# Altium footprint library PinSocKeyPointOthers.PcbLib: 16 footprints
Each footprint in its own frame and in the unit in brackets; x right, y up, seen from the top. Pads: shape width x height; smd on the part's side, far side on the other; paste and mask are expansions set on the pad; w line width, h text height; cw(c..) or ccw(c..) is an arc to the next point about the centre after c.
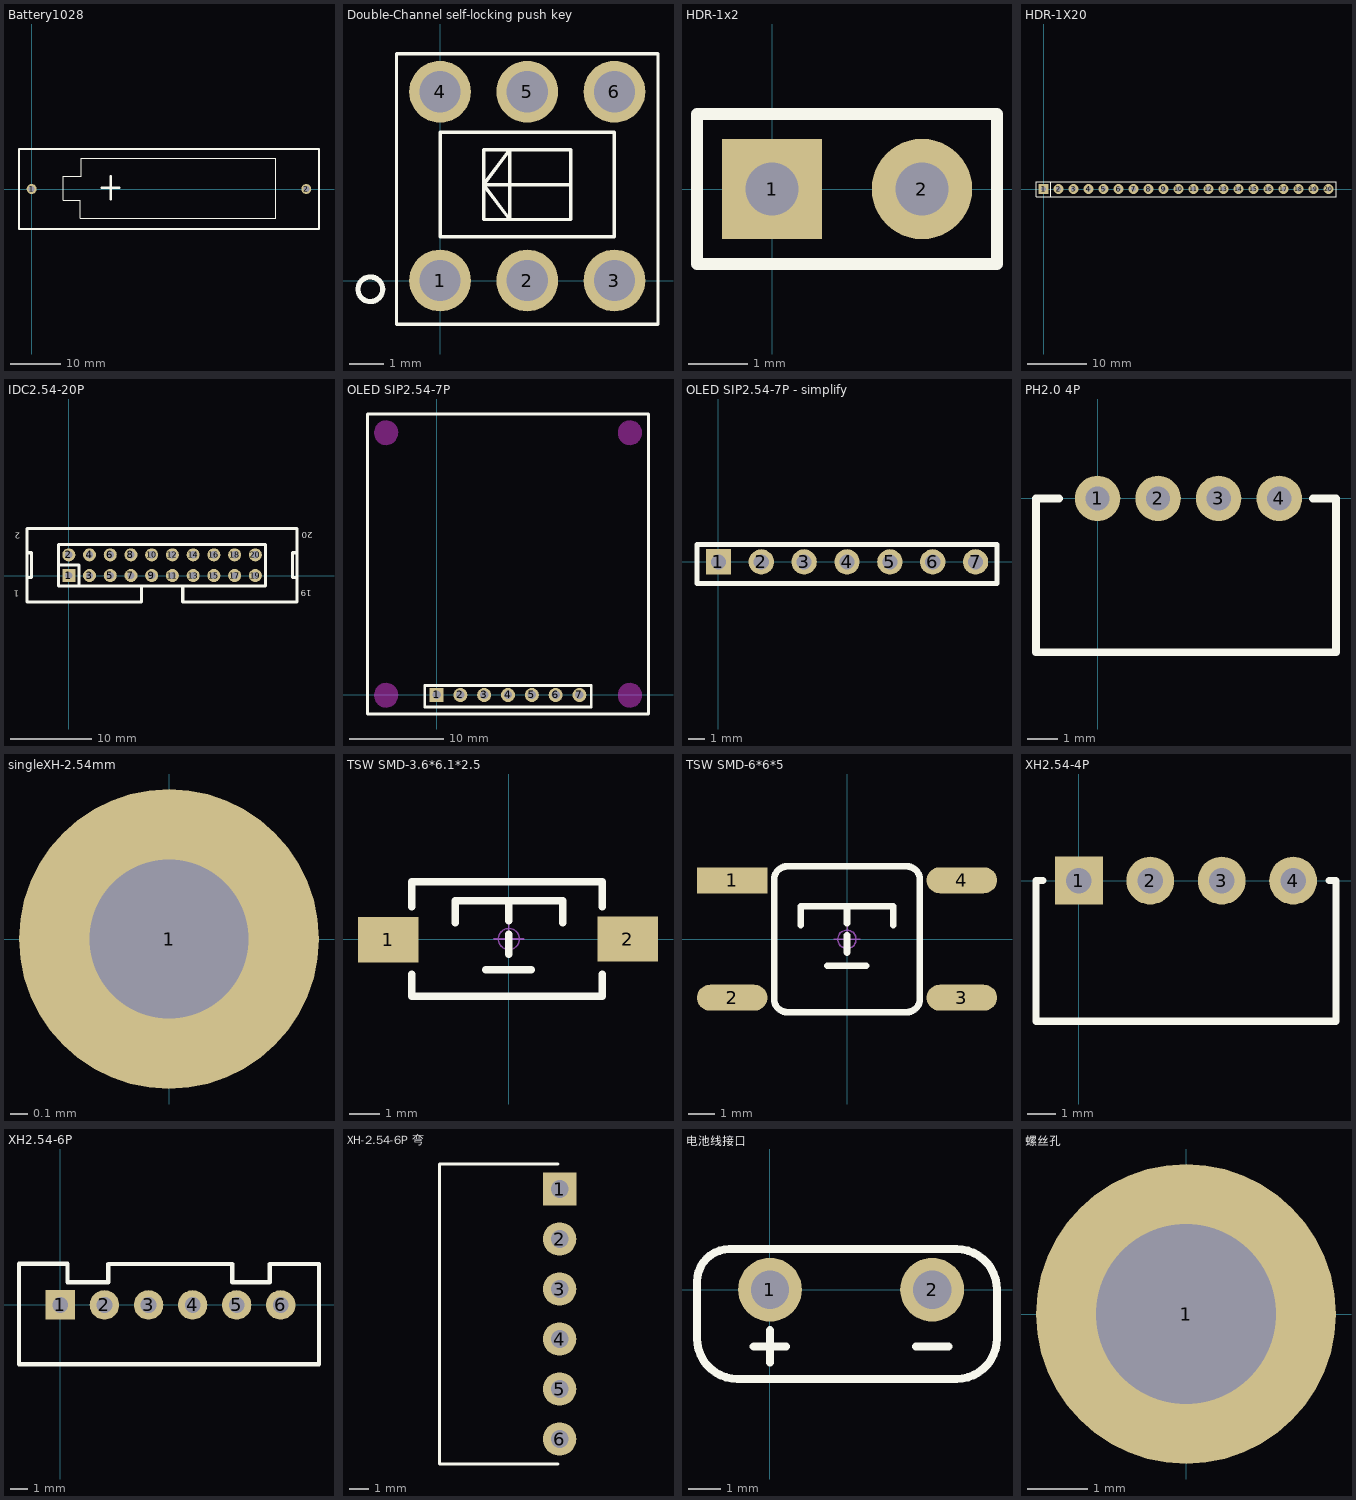
[diagram p0: the footprints below, top view; thin cyan lines are the x and y axes]

## Battery1028 [mm] "7号电池槽穿孔"
pads (2):
  round 2 hole 1.2: 1(0,0) 2(54.86,0)
Top Overlay:
  lines w0.1: 6.35,-2.286 6.35,2.54 9.906,2.54 9.906,6.096 48.768,6.096 48.768,-5.842 9.652,-5.842 9.652,-2.286 6.35,-2.286
  lines w0.4: -2.54,-8 -2.54,8 57.404,8 57.404,-8 -2.54,-8
  lines w0.5: 13.97,0.254 17.526,0.254 ; 15.748,-2.032 15.748,2.54

## Double-Channel self-locking push key [mm]
pads (6):
  round 1.8 hole 1.2: 1(0,0) 2(2.54,0) 3(5.08,0) 4(0,5.5) 5(2.54,5.5) 6(5.08,5.5)
Top Overlay:
  circle w0.152: c-2.032,-0.254 r0.359
  lines w0.1: 3.81,2.794 1.27,2.794 ; 1.27,2.794 2.032,3.81 2.032,1.778 1.27,2.794 ; -1.27,-1.27 -1.27,6.604 6.35,6.604 6.35,-1.27 -1.27,-1.27 ; 0,1.27 0,4.318 5.08,4.318 5.08,1.27 0,1.27 ; 1.27,1.778 3.81,1.778 3.81,3.81 1.27,3.81 1.27,1.778

## HDR-1x2 [mm]
pads (2):
  rect 1.7x1.7 hole 0.9: 1(0,0)
  round 1.7 hole 0.9: 2(2.54,0)
Top Overlay:
  lines w0.2: -1.27,-1.27 -1.27,1.27 3.81,1.27 3.81,-1.27 -1.27,-1.27
3D body: height 8.5, standoff -3, extent 1.27,-1.27 3.81,1.27
3D body: height 8.5, standoff -3, extent -1.27,-1.27 1.27,1.27

## HDR-1X20 [mm]
pads (20):
  rect 1.7x1.7 hole 0.9: 1(0,0)
  round 1.7 hole 0.9: 2(2.54,0) 3(5.08,0) 4(7.62,0) 5(10.16,0) 6(12.7,0) 7(15.24,0) 8(17.78,0) 9(20.32,0) 10(22.86,0) 11(25.4,0) 12(27.94,0) 13(30.48,0) 14(33.02,0) 15(35.56,0) 16(38.1,0)
  round 1.7 hole 0.762: 17(40.64,0) 18(43.18,0) 19(45.72,0) 20(48.26,0)
Top Overlay:
  lines w0.2: 1.25,-1.25 1.25,1.25 ; -1.27,-1.27 49.53,-1.27 49.53,1.27 0.635,1.27 -1.27,1.27 -1.27,-1.27
3D body: height 8.5, standoff -3, extent 46.99,-1.27 49.53,1.27
3D body: height 8.5, standoff -3, extent 41.91,-1.27 44.45,1.27
3D body: height 8.5, standoff -3, extent 44.45,-1.27 46.99,1.27
3D body: height 8.5, standoff -3, extent 36.83,-1.27 39.37,1.27
3D body: height 8.5, standoff -3, extent 39.37,-1.27 41.91,1.27
3D body: height 8.5, standoff -3, extent 34.29,-1.27 36.83,1.27
3D body: height 8.5, standoff -3, extent 29.21,-1.27 31.75,1.27
3D body: height 8.5, standoff -3, extent 31.75,-1.27 34.29,1.27
3D body: height 8.5, standoff -3, extent 24.13,-1.27 26.67,1.27
3D body: height 8.5, standoff -3, extent 26.67,-1.27 29.21,1.27
3D body: height 8.5, standoff -3, extent 21.59,-1.27 24.13,1.27
3D body: height 8.5, standoff -3, extent 16.51,-1.27 19.05,1.27
3D body: height 8.5, standoff -3, extent 19.05,-1.27 21.59,1.27
3D body: height 8.5, standoff -3, extent 11.43,-1.27 13.97,1.27
3D body: height 8.5, standoff -3, extent 13.97,-1.27 16.51,1.27
3D body: height 8.5, standoff -3, extent 8.89,-1.27 11.43,1.27
3D body: height 8.5, standoff -3, extent 3.81,-1.27 6.35,1.27
3D body: height 8.5, standoff -3, extent 6.35,-1.27 8.89,1.27
3D body: height 8.5, standoff -3, extent -1.27,-1.27 1.27,1.27
3D body: height 8.5, standoff -3, extent 1.27,-1.27 3.81,1.27

## IDC2.54-20P [mm]
pads (20):
  rect 1.6x1.6 hole 0.9: 1(0,0)
  round 1.6 hole 0.9: 2(0,2.54) 3(2.54,0) 4(2.54,2.54) 5(5.08,0) 6(5.08,2.54) 7(7.62,0) 8(7.62,2.54) 9(10.16,0) 10(10.16,2.54) 11(12.7,0) 12(12.7,2.54) 13(15.24,0) 14(15.24,2.54) 15(17.78,0) 16(17.78,2.54) 17(20.32,0) 18(20.32,2.54) 19(22.86,0) 20(22.86,2.54)
Top Overlay:
  lines w0.381: -5.11,-0.254 -4.572,-0.254 -4.572,2.794 -5.08,2.794 ; -1.27,1.27 1.27,1.27 1.27,-1.27 ; 8.89,-1.27 8.89,-3.23 -5.11,-3.23 -5.11,5.77 27.97,5.77 27.97,-3.23 13.97,-3.23 13.97,-1.27 ; 27.94,-0.254 27.432,-0.254 27.432,2.794 27.97,2.794 ; -1.27,-1.27 -1.27,3.81 24.13,3.81 24.13,-1.27 -1.27,-1.27
  text "2" at -5.95,5.25 h0.76
  text "1" at -6.1,-1.85 h0.76
  text "20" at 29.9,5.3 h0.76
  text "19" at 29.75,-1.8 h0.76
Bottom Overlay:
  lines w0.6: -1.041,1.27 23.5,1.27 ; 1.27,-0.813 1.27,3.556 ; 3.81,-0.813 3.81,3.556 ; 6.35,-0.813 6.35,3.556 ; 8.89,-0.813 8.89,3.556 ; 11.43,-0.813 11.43,3.556 ; 13.97,-0.813 13.97,3.556 ; 16.51,-0.813 16.51,3.556 ; 19.05,-0.813 19.05,3.556 ; 21.59,-0.813 21.59,3.556
3D body: height 9.17, standoff -3, extent -5.08,-3.08 27.94,5.77

## OLED SIP2.54-7P [mm]
pads (7):
  rect 1.5x1.5 hole 0.9: 1(0,0)
  round 1.5 hole 0.9: 2(2.54,0) 3(5.08,0) 4(7.62,0) 5(10.16,0) 6(12.7,0) 7(15.24,0)
Top Overlay:
  lines w0.3: -7.38,-2.032 22.62,-2.032 22.62,29.968 -7.38,29.968 -7.38,-2.032 ; -1.27,-1.27 16.51,-1.27 16.51,1.016 -1.27,1.016 -1.27,-1.27
Keep-Out Layer:
  circle w0.127: c20.62,-0.032 r1.26
  circle w0.127: c-5.38,-0.032 r1.26
  circle w0.127: c-5.38,27.968 r1.26
  circle w0.127: c20.62,27.968 r1.26
  board cut-out: 20.645,1.235 20.318,1.192 20.014,1.066 19.753,0.866 19.553,0.605 19.427,0.301 19.384,-0.025 19.395,-0.025 19.359,-0.031 19.402,-0.357 19.528,-0.661 19.728,-0.922 19.989,-1.122 20.293,-1.248 20.62,-1.291 20.62,-1.281 20.63,-1.291 20.956,-1.248 21.26,-1.122 21.521,-0.922 21.722,-0.661 21.848,-0.357 21.891,-0.031 21.88,-0.031 21.905,-0.025 21.906,-0.025 21.863,0.301 21.737,0.605 21.536,0.866 21.275,1.066 20.971,1.192
  board cut-out: 20.645,29.226 20.318,29.183 20.014,29.057 19.753,28.857 19.553,28.596 19.427,28.292 19.384,27.965 19.395,27.965 19.359,27.96 19.402,27.634 19.528,27.33 19.728,27.069 19.989,26.868 20.293,26.742 20.62,26.699 20.62,26.71 20.63,26.699 20.956,26.742 21.26,26.868 21.521,27.069 21.722,27.33 21.848,27.634 21.891,27.96 21.88,27.96 21.905,27.965 21.906,27.965 21.863,28.292 21.737,28.596 21.536,28.857 21.275,29.057 20.971,29.183
  board cut-out: -5.365,29.226 -5.691,29.183 -5.995,29.057 -6.256,28.857 -6.457,28.596 -6.583,28.292 -6.626,27.965 -6.615,27.965 -6.651,27.96 -6.608,27.634 -6.482,27.33 -6.281,27.069 -6.02,26.868 -5.716,26.742 -5.39,26.699 -5.39,26.71 -5.38,26.699 -5.053,26.742 -4.749,26.868 -4.488,27.069 -4.288,27.33 -4.162,27.634 -4.119,27.96 -4.13,27.96 -4.105,27.965 -4.104,27.965 -4.147,28.292 -4.273,28.596 -4.473,28.857 -4.734,29.057 -5.038,29.183
  board cut-out: -5.365,1.235 -5.691,1.192 -5.995,1.066 -6.256,0.866 -6.457,0.605 -6.583,0.301 -6.626,-0.025 -6.615,-0.025 -6.651,-0.031 -6.608,-0.357 -6.482,-0.661 -6.281,-0.922 -6.02,-1.122 -5.716,-1.248 -5.39,-1.291 -5.39,-1.281 -5.38,-1.291 -5.053,-1.248 -4.749,-1.122 -4.488,-0.922 -4.288,-0.661 -4.162,-0.357 -4.119,-0.031 -4.13,-0.031 -4.105,-0.025 -4.104,-0.025 -4.147,0.301 -4.273,0.605 -4.473,0.866 -4.734,1.066 -5.038,1.192
3D body: height 8.5, standoff -3, extent 13.97,-1.397 16.51,1.143
3D body: height 8.5, standoff -3, extent 11.43,-1.397 13.97,1.143
3D body: height 8.5, standoff -3, extent 8.89,-1.397 11.43,1.143
3D body: height 8.5, standoff -3, extent 6.35,-1.397 8.89,1.143
3D body: height 8.5, standoff -3, extent 3.81,-1.397 6.35,1.143
3D body: height 8.5, standoff -3, extent 1.27,-1.397 3.81,1.143
3D body: height 8.5, standoff -3, extent -1.27,-1.397 1.27,1.143

## OLED SIP2.54-7P - simplify [mm]
pads (7):
  rect 1.5x1.5 hole 0.9: 1(0,0)
  round 1.5 hole 0.9: 2(2.54,0) 3(5.08,0) 4(7.62,0) 5(10.16,0) 6(12.7,0) 7(15.24,0)
Top Overlay:
  lines w0.3: -1.27,-1.27 16.51,-1.27 16.51,1.016 -1.27,1.016 -1.27,-1.27
3D body: height 8.5, standoff -3, extent 13.97,-1.397 16.51,1.143
3D body: height 8.5, standoff -3, extent 11.43,-1.397 13.97,1.143
3D body: height 8.5, standoff -3, extent 8.89,-1.397 11.43,1.143
3D body: height 8.5, standoff -3, extent 6.35,-1.397 8.89,1.143
3D body: height 8.5, standoff -3, extent 3.81,-1.397 6.35,1.143
3D body: height 8.5, standoff -3, extent 1.27,-1.397 3.81,1.143
3D body: height 8.5, standoff -3, extent -1.27,-1.397 1.27,1.143

## PH2.0 4P [mm] "弯"
pads (4):
  round 1.5 hole 0.8: 1(0,0) 2(2,0) 3(4,0) 4(6,0)
Top Overlay:
  lines w0.254: -1.27,0 -2.032,0 -2.032,-5.08 7.874,-5.08 7.874,0 7.112,0

## singleXH-2.54mm [mm] "测试点"
pads (1):
  round 1.7 hole 0.9: 1(0,0)

## TSW SMD-3.6*6.1*2.5 [mm]
pads (2):
  rect 2x1.5 smd: 1(-3.996,-0.02) 2(3.937,0)
Top Overlay:
  lines w0.254: -3.212,-1.168 -3.212,-1.9 3.088,-1.9 3.088,-1.168 ; -3.212,1.067 -3.212,1.9 3.088,1.9 3.088,1.067 ; -1.778,0.533 -1.778,1.27 1.778,1.27 1.778,0.533 ; -0.762,-1.016 0.737,-1.016 ; 0,-0.508 0,0.152 ; 0,0.61 0,1.27
Mechanical 15:
  circle w0.05: c0,0 r0.35
  lines w0.05: -0.5,0 0.5,0 ; 0,-0.5 0,0.5
3D body: height 2.59, standoff -0.03, extent -4,-1.877 4,1.623

## TSW SMD-6*6*5 [mm]
pads (4):
  rect 2.7x1 smd: 1(-4.4,2.261)
  oval 2.7x1 smd: 2(-4.4,-2.239) 3(4.4,-2.239) 4(4.4,2.261)
Top Overlay:
  lines w0.254: -1.778,0.533 -1.778,1.27 1.778,1.27 1.778,0.533 ; -0.762,-1.016 0.737,-1.016 ; 0,-0.508 0,0.152 ; 0,0.61 0,1.27 ; -2.794,-2.286 ccw(c-2.286,-2.286) -2.286,-2.794 2.286,-2.794 ccw(c2.286,-2.286) 2.794,-2.286 2.794,2.286 ccw(c2.286,2.286) 2.286,2.794 -2.286,2.794 ccw(c-2.286,2.286) -2.794,2.286 -2.794,-2.286
Mechanical 15:
  circle w0.05: c0,0 r0.35
  lines w0.05: -0.5,0 0.5,0 ; 0,-0.5 0,0.5
3D body: height 5.95, standoff -0.03, extent -4.5,-3 4.5,3

## XH2.54-4P [mm]
pads (4):
  rect 1.7x1.7 hole 0.9: 1(0,0)
  round 1.7 hole 0.9: 2(2.54,0) 3(5.08,0) 4(7.62,0)
Top Overlay:
  lines w0.254: -1.27,0 -1.524,0 -1.524,-5 9.144,-5 9.144,0 8.89,0

## XH2.54-6P [mm]
pads (6):
  rect 1.7x1.7 hole 0.9: 1(0,0)
  round 1.7 hole 0.9: 2(2.54,0) 3(5.08,0) 4(7.62,0) 5(10.16,0) 6(12.7,0)
Top Overlay:
  lines w0.254: -2.388,-3.429 14.91,-3.429 14.91,2.362 12.065,2.362 12.065,1.321 9.906,1.321 9.906,2.362 2.769,2.362 2.769,1.321 0.406,1.321 0.406,2.388 -2.388,2.388 -2.388,-3.429
3D body: height 7.03, standoff -2.47, extent -2.5,-3.3 15.2,2.4

## XH-2.54-6P 弯 [mm]
pads (6):
  rect 1.7x1.7 hole 0.9: 1(12.7,16.51)
  round 1.7 hole 0.9: 2(12.7,13.97) 3(12.7,11.43) 4(12.7,8.89) 5(12.7,6.35) 6(12.7,3.81)
Top Overlay:
  lines w0.154: 12.604,2.54 6.604,2.54 6.604,17.78 12.604,17.78

## 电池线接口 [mm]
pads (2):
  round 2 hole 1.2: 1(0,0) 2(5.08,0)
Top Overlay:
  lines w0.254: -0.508,-1.778 0.508,-1.778 ; 0,-2.286 0,-1.27 ; 4.572,-1.778 5.588,-1.778 ; -2.286,-1.524 ccw(c-1.016,-1.524) -1.016,-2.794 5.842,-2.794 ccw(c5.842,-1.524) 7.112,-1.524 7.112,0 ccw(c5.842,0) 5.842,1.27 -1.27,1.27 ccw(c-1.27,0.254) -2.286,0.254 -2.286,-1.524

## 螺丝孔 [mm]
pads (1):
  round 5 hole 3: 1(0,0)